# EAGLE library part BM1383AGLV (library lz-shield)
Digi-Key品番 BM1383AGLV-ZE2CT-ND
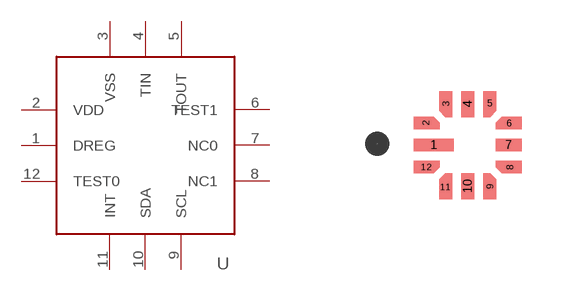
[diagram p11: symbol with the pads of BM1383AGLV; footprint BM1383AGLV]

Designator prefix -

## BM1383AGLV  [BM1383AGLV]
1  DREG
2  VDD  pwr
3  VSS  pwr
4  TIN  in
5  TOUT  out
6  TEST1
7  NC0  nc
8  NC1  nc
9  SCL
10  SDA
11  INT  out
12  TEST0

## Footprint BM1383AGLV (pad centres in mm)
smd 1 x 0.32: 1 -0.85,0
smd 0.25 x 0.25: 2 -1.05,0.555; 3 -0.55,1.035; 5 0.555,1.05; 6 1.035,0.55; 8 1.05,-0.555; 9 0.55,-1.035; 11 -0.555,-1.05; 12 -1.035,-0.55
smd 0.32 x 0.65: 4 0,1.025; 10 0,-1.025
smd 0.65 x 0.32: 7 1.025,0